# Altium footprint library CAN_Logger_V1I1.PcbLib: 12 footprints
Each footprint in its own frame and in the unit in brackets; x right, y up, seen from the top. Pads: shape width x height; smd on the part's side, far side on the other; paste and mask are expansions set on the pad; w line width, h text height; cw(c..) or ccw(c..) is an arc to the next point about the centre after c.
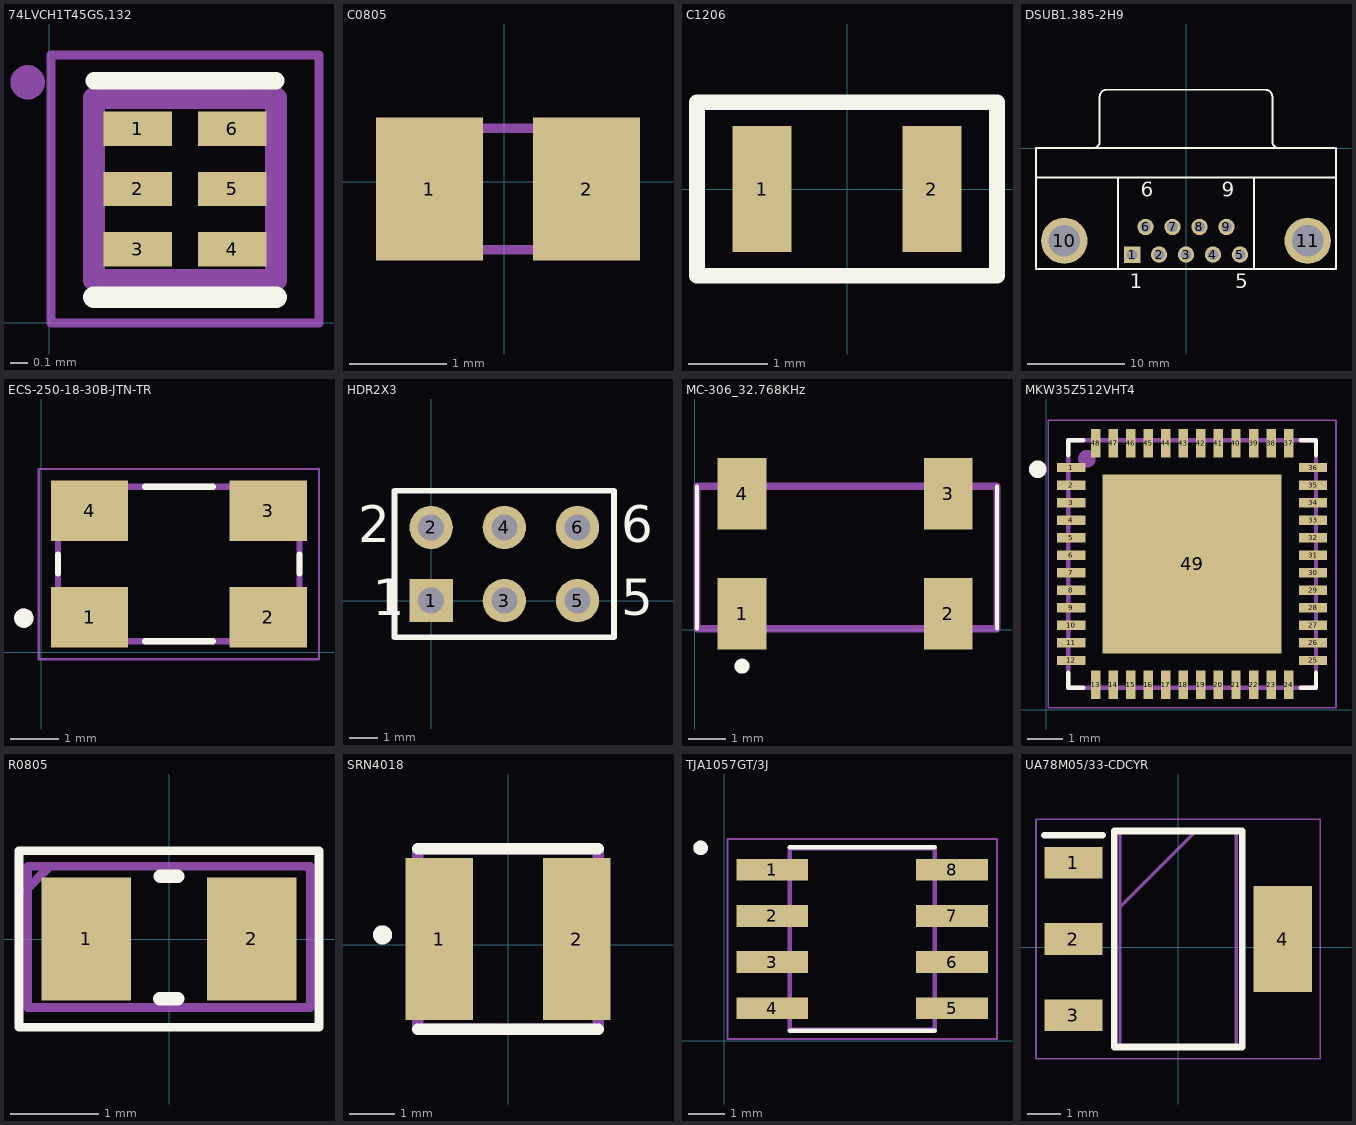
[diagram p0: the footprints below, top view; thin cyan lines are the x and y axes]

## 74LVCH1T45GS,132 [mm]
pads (6):
  rect 0.4x0.2 smd: 1(0.516,1.129) 2(0.516,0.779) 3(0.516,0.429) 4(1.066,0.429) 5(1.066,0.779) 6(1.066,1.129)
Top Overlay:
  lines w0.1: 0.261,1.409 1.321,1.409
  lines w0.127: 0.261,0.149 1.321,0.149
Mechanical 4:
  circle w0.1: c-0.125,1.4 r0.05
  circle w0.1: c-0.125,1.4 r0.05
  lines w0.127: 0.261,0.249 1.321,0.249 ; 0.261,0.249 0.261,1.309 ; 0.261,0.249 1.321,0.249 ; 0.261,0.249 0.261,1.309 ; 0.261,1.309 1.321,1.309 ; 0.261,1.309 1.321,1.309 ; 1.321,0.249 1.321,1.309 ; 1.321,0.249 1.321,1.309
Mechanical 16:
  lines w0.05: 0.011,-0.001 1.571,-0.001 1.571,1.559 0.011,1.559 0.011,-0.001
3D body "User Library-XFDFN-6.step": height 0.39, standoff -0.02, extent 0.274,0.265 1.326,1.3

## C0805 [mm]
pads (2):
  rect 1.1x1.47 smd: 1(-0.769,-0.073) 2(0.851,-0.073)
Mechanical 15:
  lines w0.1: -0.959,-0.698 1.041,-0.698 1.041,0.552 -0.959,0.552 -0.959,-0.698
3D body: height 0.5, standoff 0, extent 0.775,-0.675 1.125,0.525
3D body: height 0.5, standoff 0, extent -1.025,-0.675 -0.675,0.525
3D body: height 0.5, standoff 0, extent -0.675,-0.675 0.775,0.525

## C1206 [mm]
pads (2):
  rect 0.75x1.6 smd: 1(-1.075,0) 2(1.075,0)
Top Overlay:
  lines w0.2: -1.9,-1.1 -1.9,-0.55 -1.9,1.1 1.9,1.1 1.9,-1.1 -1.9,-1.1
3D body: height 0.6, standoff 0, extent -0.775,-0.75 0.75,0.725
3D body: height 0.6, standoff 0, extent -1.025,-0.725 -0.775,0.725
3D body: height 0.6, standoff 0, extent 0.725,-0.725 0.975,0.725

## DSUB1.385-2H9 [mm]
pads (11):
  rect 1.69x1.69 hole 1.09: 1(-5.54,-10.92)
  round 1.69 hole 1.09: 2(-2.77,-10.92) 3(0,-10.92) 4(2.77,-10.92) 5(5.54,-10.92) 6(-4.155,-8.08) 7(-1.385,-8.08) 8(1.385,-8.08) 9(4.155,-8.08)
  round 4.76 hole 3.26: 10(-12.495,-9.5) 11(12.495,-9.5)
Top Overlay:
  lines w0.2: -15.4,-3 15.4,-3 ; -9.56,0.005 ccw(c-9.56,0.7) -8.865,0.7 -8.865,5.3 ; -8.86,5.305 cw(c-8.165,5.305) -8.165,6 8.165,6 cw(c8.165,5.305) 8.86,5.305 ; -7,-12.4 -7,-3 ; 7,-12.4 7,-3 ; 8.865,5.3 8.865,0.7 ccw(c9.56,0.7) 9.56,0.005 ; -15.4,-12.4 15.4,-12.4 15.4,0 -15.4,0 -15.4,-12.4
  text "6" at -4.655,-4.975 h1.5
  text "9" at 3.655,-4.975 h1.5
  text "5" at 5.04,-14.375 h1.5
  text "1" at -5.79,-14.375 h1.5
3D body "CircuitWorks-DB9RA_M.step": height 12.55, standoff -3.5, extent -15.7,-12.69 15.614,6.11

## ECS-250-18-30B-JTN-TR [mm]
pads (4):
  rect 1.6x1.25 smd: 1(0.999,0.73) 2(4.699,0.73) 3(4.699,2.93) 4(0.999,2.93)
Top Overlay:
  circle w0.2: c-0.361,0.71 r0.1
  lines w0.127: 0.349,1.63 0.349,2.03 ; 2.149,0.23 3.549,0.23 ; 2.149,3.43 3.549,3.43 ; 5.349,1.63 5.349,2.03
Mechanical 4:
  circle w0.2: c-0.361,0.71 r0.1
  circle w0.2: c-0.361,0.71 r0.1
  lines w0.127: 0.349,0.23 5.349,0.23 ; 0.349,0.23 0.349,3.43 ; 0.349,0.23 5.349,0.23 ; 0.349,0.23 0.349,3.43 ; 0.349,3.43 5.349,3.43 ; 0.349,3.43 5.349,3.43 ; 5.349,0.23 5.349,3.43 ; 5.349,0.23 5.349,3.43
Mechanical 16:
  lines w0.05: -0.051,-0.145 5.749,-0.145 5.749,3.805 -0.051,3.79 -0.051,-0.145
3D body "ECS-100-20-30B-TR--3DModel-STEP-40055.STEP": height 0.85, standoff 0, extent 0.35,0.25 5.35,3.45

## HDR2X3 [mm]
pads (6):
  rect 1.5x1.5 hole 0.9: 1(0,0)
  round 1.5 hole 0.9: 2(0,2.54) 3(2.54,0) 4(2.54,2.54) 5(5.08,0) 6(5.08,2.54)
Top Overlay:
  lines w0.2: 1.482,-1.27 6.35,-1.27 ; 6.35,-1.27 6.35,3.81 -1.27,3.81 -1.27,-1.27 6.35,-1.27
  text "6" at 6.604,2.032 h1.27
  text "5" at 6.604,-0.508 h1.27
  text "2" at -2.54,2.032 h1.27
  text "1" at -2.032,-0.508 h1.27

## MC-306_32.768KHz [mm]
pads (4):
  rect 1.3x1.9 smd: 1(1.264,0.432) 2(6.764,0.432) 3(6.764,3.632) 4(1.264,3.632)
Top Overlay:
  circle w0.2: c1.264,-0.968 r0.1
  lines w0.1: 0.064,0.032 0.064,3.832 ; 8.064,0.032 8.064,3.832
Mechanical 15:
  lines w0.2: 0.064,0.032 8.064,0.032 8.064,3.832 0.064,3.832 0.064,0.032
3D body "ECS-100-20-30B-TR--3DModel-STEP-40055.STEP": height 0.85, standoff 0, extent 1.45,0.425 6.45,3.625

## MKW35Z512VHT4 [mm]
pads (49):
  rect 0.81x0.27 smd: 1(0.718,6.902) 2(0.718,6.402) 3(0.718,5.902) 4(0.718,5.402) 5(0.718,4.902) 6(0.718,4.402) 7(0.718,3.902) 8(0.718,3.402) 9(0.718,2.902) 10(0.718,2.402) 11(0.718,1.902) 12(0.718,1.402) 25(7.608,1.402) 26(7.608,1.902) 27(7.608,2.402) 28(7.608,2.902) 29(7.608,3.402) 30(7.608,3.902) 31(7.608,4.402) 32(7.608,4.902) 33(7.608,5.402) 34(7.608,5.902) 35(7.608,6.402) 36(7.608,6.902)
  rect 0.27x0.81 smd: 13(1.413,0.707) 14(1.913,0.707) 15(2.413,0.707) 16(2.913,0.707) 17(3.413,0.707) 18(3.913,0.707) 19(4.413,0.707) 20(4.913,0.707) 21(5.413,0.707) 22(5.913,0.707) 23(6.413,0.707) 24(6.913,0.707) 37(6.913,7.597) 38(6.413,7.597) 39(5.913,7.597) 40(5.413,7.597) 41(4.913,7.597) 42(4.413,7.597) 43(3.913,7.597) 44(3.413,7.597) 45(2.913,7.597) 46(2.413,7.597) 47(1.913,7.597) 48(1.413,7.597)
  rect 5.1x5.1 smd: 49(4.163,4.152)
Top Overlay:
  circle w0.4: c-0.237,6.852 r0.05
  lines w0.127: 0.633,1.052 0.633,0.622 1.063,0.622 ; 0.633,7.252 0.633,7.682 1.063,7.682 ; 7.263,0.622 7.693,0.622 7.693,1.052 ; 7.263,7.682 7.693,7.682 7.693,7.252
Top Paste:
  region: 4.538,3.777 6.338,3.777 6.338,1.975 4.538,1.975
  region: 1.988,3.777 3.788,3.777 3.788,1.977 1.988,1.977
  region: 4.539,6.327 6.338,6.327 6.338,4.528 4.539,4.528
  region: 1.986,6.327 3.788,6.327 3.788,4.527 1.986,4.527
Mechanical 4:
  circle w0.4: c1.163,7.152 r0.05
  circle w0.4: c1.163,7.152 r0.05
  lines w0.127: 0.633,0.622 0.633,7.682 ; 0.633,0.622 7.693,0.622 ; 0.633,0.622 0.633,7.682 ; 0.633,0.622 7.693,0.622 ; 0.633,7.682 7.693,7.682 ; 0.633,7.682 7.693,7.682 ; 7.693,0.622 7.693,7.682 ; 7.693,0.622 7.693,7.682
Mechanical 16:
  lines w0.05: 0.063,0.052 0.063,8.252 8.263,8.252 8.263,0.052 0.063,0.052
3D body "User Library-QFN48-2.step": height 0.9, standoff 0, extent 0.638,0.627 7.688,7.677

## R0805 [mil]
pads (2):
  rect 40x55 smd: 1(-37,0) 2(37,0)
Top Overlay:
  lines w3.94: -66.93,-39.37 -66.93,39.37 66.93,39.37 66.93,-39.37 -66.93,-39.37
  lines w6: -4.06,-26.57 3.94,-26.57 ; -4,28 4,28
Mechanical 15:
  lines w3.94: -63.98,21.65 -54.13,31.5 ; -62.99,-30.51 62.99,-30.51 62.99,32.48 -62.99,32.48 -62.99,-30.51
3D body: height 19.68, standoff 0, extent -34.44,-24.11 34.45,24.12
3D body: height 19.68, standoff 0, extent -46.26,-24.11 -34.45,24.12
3D body: height 19.68, standoff 0, extent 34.45,-24.11 46.26,24.12

## SRN4018 [mm]
pads (2):
  rect 1.5x3.6 smd: 1(-1.525,0.127) 2(1.525,0.127)
Top Overlay:
  circle w0.25: c-2.781,0.219 r0.087
  lines w0.25: -2,-1.873 2,-1.873 ; -2,2.127 2,2.127
Mechanical 15:
  lines w0.25: -2,-1.873 -2,2.127 2,2.127 2,-1.873 -2,-1.873
3D body: height 0.2, standoff 0, extent 1.1,-0.9 1.7,0.9
3D body: height 0.2, standoff 0, extent -1.6,-0.9 -1,0.9
3D body: height 1.8, standoff 0, extent -1.1,-1.4 1.3,1.5

## TJA1057GT/3J [mm]
pads (8):
  rect 1.97x0.6 smd: 1(1.317,4.707) 2(1.317,3.437) 3(1.317,2.167) 4(1.317,0.897) 5(6.257,0.897) 6(6.257,2.167) 7(6.257,3.437) 8(6.257,4.707)
Top Overlay:
  circle w0.2: c-0.653,5.307 r0.1
  lines w0.127: 1.797,0.277 5.777,0.277 ; 1.797,5.327 5.777,5.327
Mechanical 4:
  circle w0.2: c-0.653,5.307 r0.1
  circle w0.2: c-0.653,5.307 r0.1
  lines w0.127: 1.797,0.302 5.777,0.302 ; 1.797,0.302 1.797,5.302 ; 1.797,0.302 5.777,0.302 ; 1.797,0.302 1.797,5.302 ; 1.797,5.302 5.777,5.302 ; 1.797,5.302 5.777,5.302 ; 5.777,0.302 5.777,5.302 ; 5.777,0.302 5.777,5.302
Mechanical 16:
  lines w0.05: 0.082,0.052 7.492,0.052 7.492,5.552 0.082,5.552 0.082,0.052
3D body "User Library-SOIC8_(ATTINY12).step": height 2.2, standoff -0.12, extent -0.346,0.05 8.046,5.43

## UA78M05/33-CDCYR [mm]
pads (4):
  rect 1.75x0.95 smd: 1(-3.15,2.554) 2(-3.15,0.254) 3(-3.15,-2.046)
  rect 1.75x3.2 smd: 4(3.15,0.254)
Top Overlay:
  lines w0.2: -4.025,3.379 -2.275,3.379 ; -1.925,-2.996 -1.925,3.504 1.925,3.504 1.925,-2.996 -1.925,-2.996
Mechanical 13:
  lines w0.1: -1.75,1.204 0.55,3.504 ; -1.75,-2.996 -1.75,3.504 1.75,3.504 1.75,-2.996 -1.75,-2.996
Mechanical 15:
  lines w0.05: -4.275,-3.346 -4.275,3.854 4.275,3.854 4.275,-3.346 -4.275,-3.346
3D body "User Library-SOT-223-1.step": height 1.58, standoff -0.07, extent -3.5,-2.944 3.5,3.556